# Altium footprint library LFCSP-16_0_5mm.PcbLib: 1 footprints
Each footprint in its own frame and in the unit in brackets; x right, y up, seen from the top. Pads: shape width x height; smd on the part's side, far side on the other; paste and mask are expansions set on the pad; w line width, h text height; cw(c..) or ccw(c..) is an arc to the next point about the centre after c.
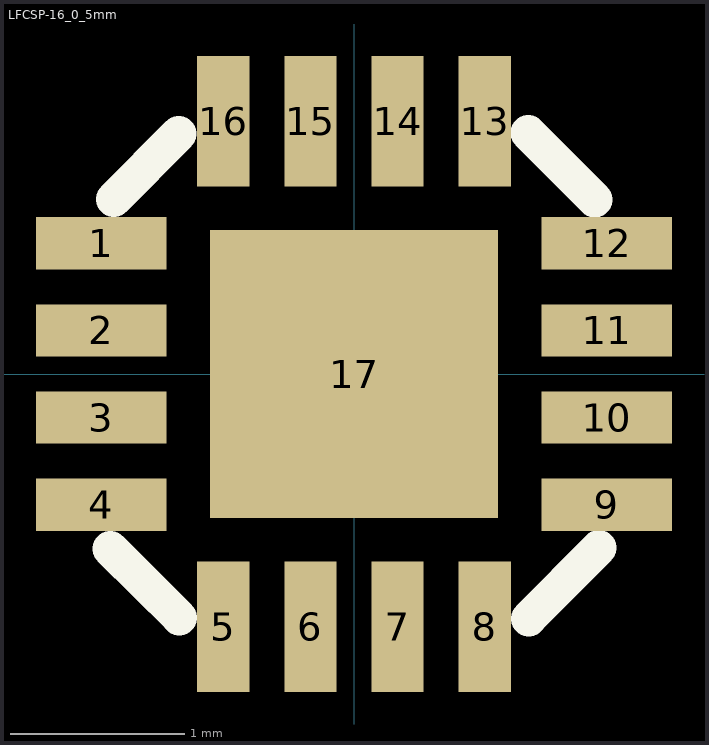
[diagram p0: the footprint, top view; thin cyan lines are the x and y axes]

## LFCSP-16_0_5mm [mm]
height 1
pads (17):
  rect 0.75x0.3 smd: 1(-1.45,0.75) 2(-1.45,0.25) 3(-1.45,-0.25) 4(-1.45,-0.75) 9(1.45,-0.75) 10(1.45,-0.25) 11(1.45,0.25) 12(1.45,0.75)
  rect 0.3x0.75 smd: 5(-0.75,-1.45) 6(-0.25,-1.45) 7(0.25,-1.45) 8(0.75,-1.45) 13(0.75,1.45) 14(0.25,1.45) 15(-0.25,1.45) 16(-0.75,1.45)
  rect 1.65x1.65 smd: 17(0,0)
TopOverlay:
  lines w0.203: -1.398,-1.002 -1.002,-1.397 ; -1.378,1.003 -1.005,1.378 ; 0.999,1.383 1.381,1 ; 1.001,-1.403 1.405,-0.997
  text "." at -2.099,0.721 h0.51